# Altium schematic symbol library WL-SBTW.SchLib: 7 symbols
Pins are listed as number, name and electrical type; pins without a type are passive.

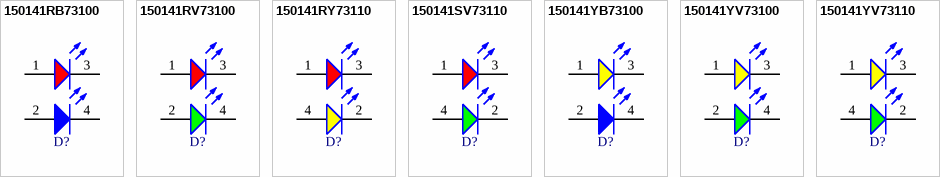
[diagram p0: symbols 150141RB73100 to 150141YV73110]

## 150141RB73100
designator D?, comment Red & Blue, 120°  (value not drawn)
WL-SBTW SMT Bi-color TOP LED Waterclear, size 3528, Red & Blue, 120°; Manufacturer Part Number: 150141RB73100; Manufacturer: Wurth Elektronik; Case/Size Code: 3528; Chip Technology: AlInGaP + InGaN; Dominant Wavelength (Blue): 470nm; Dominant Wavelength (Red): 625nm; Forward Voltage (Blue): 3.2V; Forward Voltage (Red): 2V; Luminous Intensity (Blue): 240mcd; Luminous Intensity (Red): 260mcd; Peak Wavelength (Blue): 465nm; Peak Wavelength (Red): 630nm; Category: Signal LEDs; Match Code: WL-SBTW; ComponentLink1Description: Website Link; ComponentLink1URL: https://www.we-online.com/redexpert/article/150141RB73100?ad; ComponentLink2Description: Datasheet Link; ComponentLink2URL: https://www.we-online.com/redexpert/spec/150141RB73100?ad; Mount: Surface Mount; Operating Temperature Max: 85°C; Operating Temperature Min: -40°C; Packaging: Tape and Reel; Length: 3.5mm; Width: 2.8mm; Height: 1.9mm; Emitting Color: Red & Blue; Viewing Angle: 120°
footprint WL-SBTW_3528
simulation model 3528_150141RB73100
pins: 1 A, 2 A, 3 K, 4 K

## 150141RV73100
designator D?, comment Red & Bright Green, 120°  (value not drawn)
WL-SBTW SMT Bi-color TOP LED Waterclear, size 3528, Red & Bright Green, 120°; Manufacturer Part Number: 150141RV73100; Manufacturer: Wurth Elektronik; Case/Size Code: 3528; Chip Technology: AlInGaP; Dominant Wavelength (Bright Green): 570nm; Dominant Wavelength (Red): 625nm; Forward Voltage (Bright Green): 2V; Luminous Intensity (Bright Green): 60mcd; Luminous Intensity (Red): 250mcd; Peak Wavelength (Bright Green): 572nm; Peak Wavelength (Red): 630nm; Category: Signal LEDs; Match Code: WL-SBTW; ComponentLink1Description: Website Link; ComponentLink1URL: https://www.we-online.com/redexpert/article/150141RV73100?ad; ComponentLink2Description: Datasheet Link; ComponentLink2URL: https://www.we-online.com/redexpert/spec/150141RV73100?ad; Mount: Surface Mount; Operating Temperature Max: 85°C; Operating Temperature Min: -40°C; Packaging: Tape and Reel; Length: 3.5mm; Width: 2.8mm; Height: 1.9mm; Emitting Color: Red & Bright Green; Forward Voltage (Red): 2V; Viewing Angle: 120°
footprint WL-SBTW_3528
simulation model 3528_150141RV73100
pins: 1 A, 2 A, 3 K, 4 K

## 150141RY73110
designator D?, comment Red & Yellow, 120°  (value not drawn)
WL-SBTW SMT Bi-color TOP LED Waterclear, size 3528, Red & Yellow, 120°; Manufacturer Part Number: 150141RY73110; Manufacturer: Wurth Elektronik; Case/Size Code: 3528; Chip Technology: AlInGaP; Dominant Wavelength (Red): 625nm; Dominant Wavelength (Yellow): 590nm; Forward Voltage (Red): 2V; Luminous Intensity (Red): 150mcd; Luminous Intensity (Yellow): 230mcd; Peak Wavelength (Red): 630nm; Peak Wavelength (Yellow): 592nm; Category: Signal LEDs; Match Code: WL-SBTW; ComponentLink1Description: Website Link; ComponentLink1URL: https://www.we-online.com/redexpert/article/150141RY73110?ad; ComponentLink2Description: Datasheet Link; ComponentLink2URL: https://www.we-online.com/redexpert/spec/150141RY73110?ad; Mount: Surface Mount; Operating Temperature Max: 85°C; Operating Temperature Min: -40°C; Packaging: Tape and Reel; Length: 3.5mm; Width: 2.8mm; Height: 1.9mm; Emitting Color: Red & Yellow; Forward Voltage (Yellow): 2V; Viewing Angle: 120°
footprint WL-SBTW_3528
simulation model 3528_150141RY73110
pins: 1 A, 2 K, 3 K, 4 A

## 150141SV73110
designator D?, comment Super Red & Bright Green, 120°  (value not drawn)
WL-SBTW SMT Bi-color TOP LED Waterclear, size 3528, Super Red & Bright Green, 120°; Manufacturer Part Number: 150141SV73110; Manufacturer: Wurth Elektronik; Case/Size Code: 3528; Chip Technology: AlInGaP; Dominant Wavelength (Bright Green): 570nm; Dominant Wavelength (Super Red): 630nm; Forward Voltage (Bright Green): 2V; Luminous Intensity (Bright Green): 40mcd; Luminous Intensity (Super Red): 60mcd; Peak Wavelength (Bright Green): 572nm; Peak Wavelength (Super Red): 645nm; Category: Signal LEDs; Match Code: WL-SBTW; ComponentLink1Description: Website Link; ComponentLink1URL: https://www.we-online.com/redexpert/article/150141SV73110?ad; ComponentLink2Description: Datasheet Link; ComponentLink2URL: https://www.we-online.com/redexpert/spec/150141SV73110?ad; Mount: Surface Mount; Operating Temperature Max: 85°C; Operating Temperature Min: -40°C; Packaging: Tape and Reel; Length: 3.5mm; Width: 2.8mm; Height: 1.9mm; Emitting Color: Super Red & Bright Green; Forward Voltage (Super Red): 2V; Viewing Angle: 120°
footprint WL-SBTW_3528
simulation model 3528_150141SV73110
pins: 1 A, 2 K, 3 K, 4 A

## 150141YB73100
designator D?, comment Yellow & Blue, 120°  (value not drawn)
WL-SBTW SMT Bi-color TOP LED Waterclear, size 3528, Yellow & Blue, 120°; Manufacturer Part Number: 150141YB73100; Manufacturer: Wurth Elektronik; Case/Size Code: 3528; Chip Technology: AlInGaP + InGaN; Dominant Wavelength (Blue): 470nm; Dominant Wavelength (Yellow): 590nm; Forward Voltage (Blue): 3.2V; Forward Voltage (Yellow): 2V; Luminous Intensity (Blue): 240mcd; Luminous Intensity (Yellow): 220mcd; Peak Wavelength (Blue): 465nm; Peak Wavelength (Yellow): 592nm; Category: Signal LEDs; Match Code: WL-SBTW; ComponentLink1Description: Website Link; ComponentLink1URL: https://www.we-online.com/redexpert/article/150141YB73100?ad; ComponentLink2Description: Datasheet Link; ComponentLink2URL: https://www.we-online.com/redexpert/spec/150141YB73100?ad; Mount: Surface Mount; Operating Temperature Max: 85°C; Operating Temperature Min: -40°C; Packaging: Tape and Reel; Length: 3.5mm; Width: 2.8mm; Height: 1.9mm; Emitting Color: Yellow & Blue; Viewing Angle: 120°
footprint WL-SBTW_3528
simulation model 3528_150141YB73100
pins: 1 A, 2 A, 3 K, 4 K

## 150141YV73100
designator D?, comment Yellow & Bright Green, 120°  (value not drawn)
WL-SBTW SMT Bi-color TOP LED Waterclear, size 3528, Yellow & Bright Green, 120°; Manufacturer Part Number: 150141YV73100; Manufacturer: Wurth Elektronik; Case/Size Code: 3528; Chip Technology: AlInGaP; Dominant Wavelength (Bright Green): 570nm; Dominant Wavelength (Yellow): 590nm; Forward Voltage (Bright Green): 2V; Luminous Intensity (Bright Green): 60mcd; Luminous Intensity (Yellow): 220mcd; Peak Wavelength (Bright Green): 572nm; Peak Wavelength (Yellow): 592nm; Category: Signal LEDs; Match Code: WL-SBTW; ComponentLink1Description: Website Link; ComponentLink1URL: https://www.we-online.com/redexpert/article/150141YV73100?ad; ComponentLink2Description: Datasheet Link; ComponentLink2URL: https://www.we-online.com/redexpert/spec/150141YV73100?ad; Mount: Surface Mount; Operating Temperature Max: 85°C; Operating Temperature Min: -40°C; Packaging: Tape and Reel; Length: 3.5mm; Width: 2.8mm; Height: 1.9mm; Emitting Color: Yellow & Bright Green; Forward Voltage (Yellow): 2V; Viewing Angle: 120°
footprint WL-SBTW_3528
simulation model 3528_150141YV73100
pins: 1 A, 2 A, 3 K, 4 K

## 150141YV73110
designator D?, comment Yellow & Bright Green, 120°  (value not drawn)
WL-SBTW SMT Bi-color TOP LED Waterclear, size 3528, Yellow & Bright Green, 120°; Manufacturer Part Number: 150141YV73110; Manufacturer: Wurth Elektronik; Case/Size Code: 3528; Chip Technology: AlInGaP; Dominant Wavelength (Bright Green): 570nm; Dominant Wavelength (Yellow): 590nm; Forward Voltage (Bright Green): 2V; Luminous Intensity (Bright Green): 40mcd; Luminous Intensity (Yellow): 230mcd; Peak Wavelength (Bright Green): 572nm; Peak Wavelength (Yellow): 592nm; Category: Signal LEDs; Match Code: WL-SBTW; ComponentLink1Description: Website Link; ComponentLink1URL: https://www.we-online.com/redexpert/article/150141YV73110?ad; ComponentLink2Description: Datasheet Link; ComponentLink2URL: https://www.we-online.com/redexpert/spec/150141YV73110?ad; Mount: Surface Mount; Operating Temperature Max: 85°C; Operating Temperature Min: -40°C; Packaging: Tape and Reel; Length: 3.5mm; Width: 2.8mm; Height: 1.9mm; Emitting Color: Yellow & Bright Green; Forward Voltage (Yellow): 2V; Viewing Angle: 120°
footprint WL-SBTW_3528
simulation model 3528_150141YV73110
pins: 1 A, 2 K, 3 K, 4 A